# EAGLE library part LEMOH8P (library lbm)
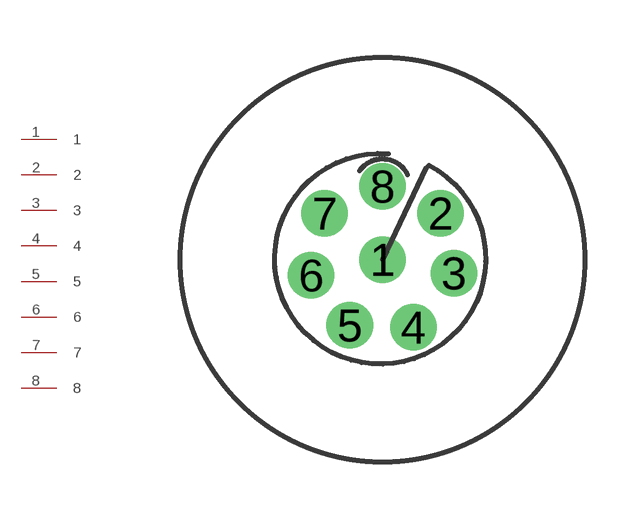
[diagram p3: symbol with the pads of LEMOH8P; footprint LEMOH8P]

Designator prefix -

## LEMOH8P  [LEMOH8P]
1  1
2  2
3  3
4  4
5  5
6  6
7  7
8  8

## Footprint LEMOH8P (pad centres in mm)
drill 0.7 round: 1 0,0.8; 2 1.5,2; 3 1.85,0.45; 4 0.8,-0.95; 5 -0.85,-0.9; 6 -1.85,0.4; 7 -1.5,2; 8 0,2.7